# EAGLE library part BSS138_SHIFTER (library Boards)
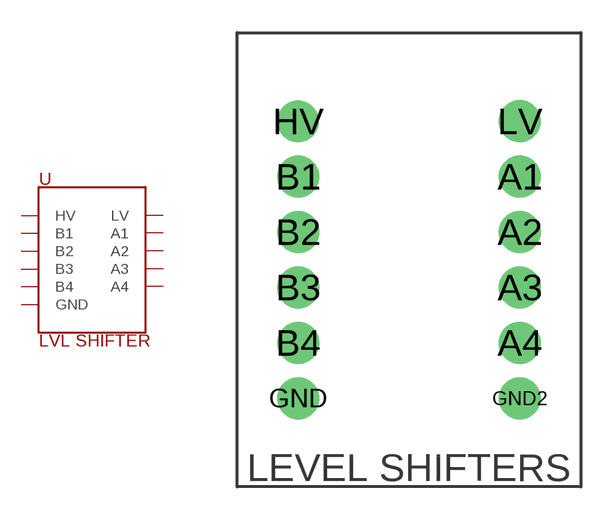
[diagram p1: symbol with the pads of BSS138_SHIFTER; footprint BSS138_SHIFTER]

Designator prefix -

## BSS138_SHIFTER  [BSS138_SHIFTER]
A1  A1
A2  A2
A3  A3
A4  A4
B1  B1
B2  B2
B3  B3
B4  B4
GND  GND
GND2  GND
HV  HV
LV  LV

## Footprint BSS138_SHIFTER (pad centres in mm)
drill 0.8 pad 1.93: A1 12.7,13.97; A2 12.7,11.43; A3 12.7,8.89; A4 12.7,6.35; B1 2.54,13.97; B2 2.54,11.43; B3 2.54,8.89; B4 2.54,6.35; GND 2.54,3.81; GND2 12.7,3.81; LV 12.7,16.51
drill 0.8 pad 1.905: HV 2.54,16.51